# Altium footprint library Eric.PcbLib: 20 footprints (part 1 of 2)
Each footprint in its own frame and in the unit in brackets; x right, y up, seen from the top. Pads: shape width x height; smd on the part's side, far side on the other; paste and mask are expansions set on the pad; w line width, h text height; cw(c..) or ccw(c..) is an arc to the next point about the centre after c.
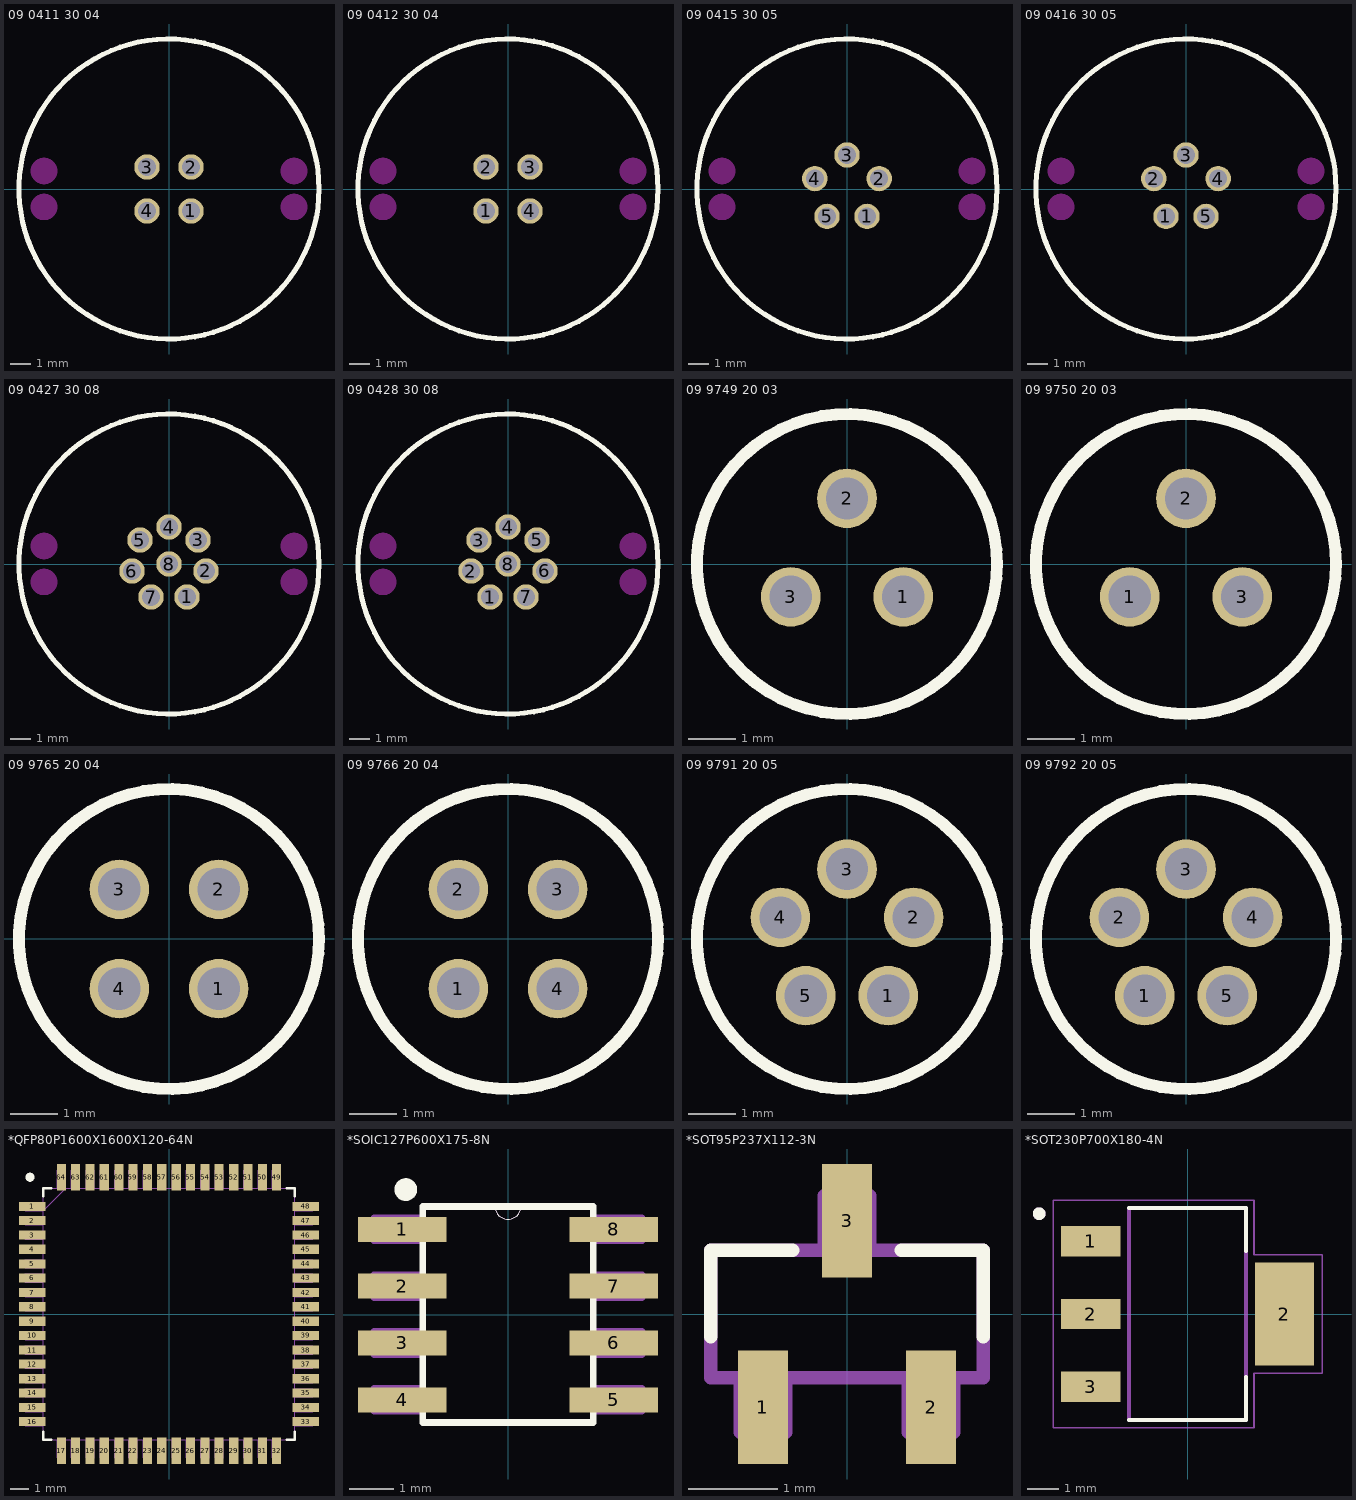
[diagram p0: the footprints below, top view; thin cyan lines are the x and y axes]

## 09 0411 30 04 [mm] "M9 IP67 Flanschstecker, Polzahl: 4, schirmbar, mit Schirmblech, tauchlöten, IP67"
pads (4):
  round 1.27 / inner rect 1.27x2.54 / far side round 1.27 hole 0.9: 1(1.1,-1.1) 2(1.1,1.1) 3(-1.1,1.1) 4(-1.1,-1.1)
Top Overlay:
  circle w0.254: c0,0 r7.5
Keep-Out Layer:
  board cut-out: -6.25,-1.55 -6.314,-1.55 -6.44,-1.525 -6.558,-1.476 -6.664,-1.405 -6.755,-1.314 -6.826,-1.208 -6.875,-1.09 -6.9,-0.964 -6.9,-0.9 -6.9,-0.836 -6.875,-0.71 -6.826,-0.592 -6.755,-0.486 -6.664,-0.395 -6.558,-0.324 -6.44,-0.275 -6.314,-0.25 -6.25,-0.25 -6.186,-0.25 -6.06,-0.275 -5.942,-0.324 -5.836,-0.395 -5.745,-0.486 -5.674,-0.592 -5.625,-0.71 -5.6,-0.836 -5.6,-0.9 -5.6,-0.964 -5.625,-1.09 -5.674,-1.208 -5.745,-1.314 -5.836,-1.405 -5.942,-1.476 -6.06,-1.525 -6.186,-1.55
  board cut-out: -6.25,0.25 -6.186,0.25 -6.06,0.275 -5.942,0.324 -5.836,0.395 -5.745,0.486 -5.674,0.592 -5.625,0.71 -5.6,0.836 -5.6,0.9 -5.6,0.964 -5.625,1.09 -5.674,1.208 -5.745,1.314 -5.836,1.405 -5.942,1.476 -6.06,1.525 -6.186,1.55 -6.25,1.55 -6.314,1.55 -6.44,1.525 -6.558,1.476 -6.664,1.405 -6.755,1.314 -6.826,1.208 -6.875,1.09 -6.9,0.964 -6.9,0.9 -6.9,0.836 -6.875,0.71 -6.826,0.592 -6.755,0.486 -6.664,0.395 -6.558,0.324 -6.44,0.275 -6.314,0.25
  board cut-out: 5.6,0.9 5.6,0.836 5.625,0.71 5.674,0.592 5.745,0.486 5.836,0.395 5.942,0.324 6.06,0.275 6.186,0.25 6.25,0.25 6.314,0.25 6.44,0.275 6.558,0.324 6.664,0.395 6.755,0.486 6.826,0.592 6.875,0.71 6.9,0.836 6.9,0.9 6.9,0.964 6.875,1.09 6.826,1.208 6.755,1.314 6.664,1.405 6.558,1.476 6.44,1.525 6.314,1.55 6.25,1.55 6.186,1.55 6.06,1.525 5.942,1.476 5.836,1.405 5.745,1.314 5.674,1.208 5.625,1.09 5.6,0.964
  board cut-out: 5.6,-0.9 5.6,-0.964 5.625,-1.09 5.674,-1.208 5.745,-1.314 5.836,-1.405 5.942,-1.476 6.06,-1.525 6.186,-1.55 6.25,-1.55 6.314,-1.55 6.44,-1.525 6.558,-1.476 6.664,-1.405 6.755,-1.314 6.826,-1.208 6.875,-1.09 6.9,-0.964 6.9,-0.9 6.9,-0.836 6.875,-0.71 6.826,-0.592 6.755,-0.486 6.664,-0.395 6.558,-0.324 6.44,-0.275 6.314,-0.25 6.25,-0.25 6.186,-0.25 6.06,-0.275 5.942,-0.324 5.836,-0.395 5.745,-0.486 5.674,-0.592 5.625,-0.71 5.6,-0.836
3D body "09_0411_30_04.stp": height 20.57, standoff -2.68, extent -7.5,-7.5 7.5,7.5

## 09 0412 30 04 [mm] "M9 IP67 Flanschdose, Polzahl: 4, schirmbar, mit Schirmblech, tauchlöten, IP67"
pads (4):
  round 1.27 / inner rect 1.27x2.54 / far side round 1.27 hole 0.9: 1(-1.1,-1.1) 2(-1.1,1.1) 3(1.1,1.1) 4(1.1,-1.1)
Top Overlay:
  circle w0.254: c0,0 r7.5
Keep-Out Layer:
  board cut-out: -6.25,-1.55 -6.314,-1.55 -6.44,-1.525 -6.558,-1.476 -6.664,-1.405 -6.755,-1.314 -6.826,-1.208 -6.875,-1.09 -6.9,-0.964 -6.9,-0.9 -6.9,-0.836 -6.875,-0.71 -6.826,-0.592 -6.755,-0.486 -6.664,-0.395 -6.558,-0.324 -6.44,-0.275 -6.314,-0.25 -6.25,-0.25 -6.186,-0.25 -6.06,-0.275 -5.942,-0.324 -5.836,-0.395 -5.745,-0.486 -5.674,-0.592 -5.625,-0.71 -5.6,-0.836 -5.6,-0.9 -5.6,-0.964 -5.625,-1.09 -5.674,-1.208 -5.745,-1.314 -5.836,-1.405 -5.942,-1.476 -6.06,-1.525 -6.186,-1.55
  board cut-out: -6.25,0.25 -6.186,0.25 -6.06,0.275 -5.942,0.324 -5.836,0.395 -5.745,0.486 -5.674,0.592 -5.625,0.71 -5.6,0.836 -5.6,0.9 -5.6,0.964 -5.625,1.09 -5.674,1.208 -5.745,1.314 -5.836,1.405 -5.942,1.476 -6.06,1.525 -6.186,1.55 -6.25,1.55 -6.314,1.55 -6.44,1.525 -6.558,1.476 -6.664,1.405 -6.755,1.314 -6.826,1.208 -6.875,1.09 -6.9,0.964 -6.9,0.9 -6.9,0.836 -6.875,0.71 -6.826,0.592 -6.755,0.486 -6.664,0.395 -6.558,0.324 -6.44,0.275 -6.314,0.25
  board cut-out: 5.6,0.9 5.6,0.836 5.625,0.71 5.674,0.592 5.745,0.486 5.836,0.395 5.942,0.324 6.06,0.275 6.186,0.25 6.25,0.25 6.314,0.25 6.44,0.275 6.558,0.324 6.664,0.395 6.755,0.486 6.826,0.592 6.875,0.71 6.9,0.836 6.9,0.9 6.9,0.964 6.875,1.09 6.826,1.208 6.755,1.314 6.664,1.405 6.558,1.476 6.44,1.525 6.314,1.55 6.25,1.55 6.186,1.55 6.06,1.525 5.942,1.476 5.836,1.405 5.745,1.314 5.674,1.208 5.625,1.09 5.6,0.964
  board cut-out: 5.6,-0.9 5.6,-0.964 5.625,-1.09 5.674,-1.208 5.745,-1.314 5.836,-1.405 5.942,-1.476 6.06,-1.525 6.186,-1.55 6.25,-1.55 6.314,-1.55 6.44,-1.525 6.558,-1.476 6.664,-1.405 6.755,-1.314 6.826,-1.208 6.875,-1.09 6.9,-0.964 6.9,-0.9 6.9,-0.836 6.875,-0.71 6.826,-0.592 6.755,-0.486 6.664,-0.395 6.558,-0.324 6.44,-0.275 6.314,-0.25 6.25,-0.25 6.186,-0.25 6.06,-0.275 5.942,-0.324 5.836,-0.395 5.745,-0.486 5.674,-0.592 5.625,-0.71 5.6,-0.836
3D body "09_0412_30_04.stp": height 12.65, standoff -2.75, extent -7.5,-7.5 7.5,7.5

## 09 0415 30 05 [mm] "M9 IP67 Flanschstecker, Polzahl: 5, schirmbar, mit Schirmblech, tauchlöten, IP67"
pads (5):
  round 1.27 / inner rect 1.27x2.54 / far side round 1.27 hole 0.9: 1(1,-1.37) 2(1.61,0.52) 3(0,1.7) 4(-1.61,0.52) 5(-1,-1.37)
Top Overlay:
  circle w0.254: c0,0 r7.5
Keep-Out Layer:
  board cut-out: 5.6,-0.9 5.6,-0.964 5.625,-1.09 5.674,-1.208 5.745,-1.314 5.836,-1.405 5.942,-1.476 6.06,-1.525 6.186,-1.55 6.25,-1.55 6.314,-1.55 6.44,-1.525 6.558,-1.476 6.664,-1.405 6.755,-1.314 6.826,-1.208 6.875,-1.09 6.9,-0.964 6.9,-0.9 6.9,-0.836 6.875,-0.71 6.826,-0.592 6.755,-0.486 6.664,-0.395 6.558,-0.324 6.44,-0.275 6.314,-0.25 6.25,-0.25 6.186,-0.25 6.06,-0.275 5.942,-0.324 5.836,-0.395 5.745,-0.486 5.674,-0.592 5.625,-0.71 5.6,-0.836
  board cut-out: 5.6,0.9 5.6,0.836 5.625,0.71 5.674,0.592 5.745,0.486 5.836,0.395 5.942,0.324 6.06,0.275 6.186,0.25 6.25,0.25 6.314,0.25 6.44,0.275 6.558,0.324 6.664,0.395 6.755,0.486 6.826,0.592 6.875,0.71 6.9,0.836 6.9,0.9 6.9,0.964 6.875,1.09 6.826,1.208 6.755,1.314 6.664,1.405 6.558,1.476 6.44,1.525 6.314,1.55 6.25,1.55 6.186,1.55 6.06,1.525 5.942,1.476 5.836,1.405 5.745,1.314 5.674,1.208 5.625,1.09 5.6,0.964
  board cut-out: -6.25,0.25 -6.186,0.25 -6.06,0.275 -5.942,0.324 -5.836,0.395 -5.745,0.486 -5.674,0.592 -5.625,0.71 -5.6,0.836 -5.6,0.9 -5.6,0.964 -5.625,1.09 -5.674,1.208 -5.745,1.314 -5.836,1.405 -5.942,1.476 -6.06,1.525 -6.186,1.55 -6.25,1.55 -6.314,1.55 -6.44,1.525 -6.558,1.476 -6.664,1.405 -6.755,1.314 -6.826,1.208 -6.875,1.09 -6.9,0.964 -6.9,0.9 -6.9,0.836 -6.875,0.71 -6.826,0.592 -6.755,0.486 -6.664,0.395 -6.558,0.324 -6.44,0.275 -6.314,0.25
  board cut-out: -6.25,-1.55 -6.314,-1.55 -6.44,-1.525 -6.558,-1.476 -6.664,-1.405 -6.755,-1.314 -6.826,-1.208 -6.875,-1.09 -6.9,-0.964 -6.9,-0.9 -6.9,-0.836 -6.875,-0.71 -6.826,-0.592 -6.755,-0.486 -6.664,-0.395 -6.558,-0.324 -6.44,-0.275 -6.314,-0.25 -6.25,-0.25 -6.186,-0.25 -6.06,-0.275 -5.942,-0.324 -5.836,-0.395 -5.745,-0.486 -5.674,-0.592 -5.625,-0.71 -5.6,-0.836 -5.6,-0.9 -5.6,-0.964 -5.625,-1.09 -5.674,-1.208 -5.745,-1.314 -5.836,-1.405 -5.942,-1.476 -6.06,-1.525 -6.186,-1.55
3D body "09_0415_30_05.stp": height 20.57, standoff -2.68, extent -7.5,-7.5 7.5,7.5

## 09 0416 30 05 [mm] "M9 IP67 Flanschdose, Polzahl: 4, schirmbar, mit Schirmblech, tauchlöten, IP67"
pads (5):
  round 1.27 / inner rect 1.27x2.54 / far side round 1.27 hole 0.9: 1(-1,-1.37) 2(-1.61,0.52) 3(0,1.7) 4(1.61,0.52) 5(1,-1.37)
Top Overlay:
  circle w0.254: c0,0 r7.5
Keep-Out Layer:
  board cut-out: 5.6,-0.9 5.6,-0.964 5.625,-1.09 5.674,-1.208 5.745,-1.314 5.836,-1.405 5.942,-1.476 6.06,-1.525 6.186,-1.55 6.25,-1.55 6.314,-1.55 6.44,-1.525 6.558,-1.476 6.664,-1.405 6.755,-1.314 6.826,-1.208 6.875,-1.09 6.9,-0.964 6.9,-0.9 6.9,-0.836 6.875,-0.71 6.826,-0.592 6.755,-0.486 6.664,-0.395 6.558,-0.324 6.44,-0.275 6.314,-0.25 6.25,-0.25 6.186,-0.25 6.06,-0.275 5.942,-0.324 5.836,-0.395 5.745,-0.486 5.674,-0.592 5.625,-0.71 5.6,-0.836
  board cut-out: 5.6,0.9 5.6,0.836 5.625,0.71 5.674,0.592 5.745,0.486 5.836,0.395 5.942,0.324 6.06,0.275 6.186,0.25 6.25,0.25 6.314,0.25 6.44,0.275 6.558,0.324 6.664,0.395 6.755,0.486 6.826,0.592 6.875,0.71 6.9,0.836 6.9,0.9 6.9,0.964 6.875,1.09 6.826,1.208 6.755,1.314 6.664,1.405 6.558,1.476 6.44,1.525 6.314,1.55 6.25,1.55 6.186,1.55 6.06,1.525 5.942,1.476 5.836,1.405 5.745,1.314 5.674,1.208 5.625,1.09 5.6,0.964
  board cut-out: -6.25,0.25 -6.186,0.25 -6.06,0.275 -5.942,0.324 -5.836,0.395 -5.745,0.486 -5.674,0.592 -5.625,0.71 -5.6,0.836 -5.6,0.9 -5.6,0.964 -5.625,1.09 -5.674,1.208 -5.745,1.314 -5.836,1.405 -5.942,1.476 -6.06,1.525 -6.186,1.55 -6.25,1.55 -6.314,1.55 -6.44,1.525 -6.558,1.476 -6.664,1.405 -6.755,1.314 -6.826,1.208 -6.875,1.09 -6.9,0.964 -6.9,0.9 -6.9,0.836 -6.875,0.71 -6.826,0.592 -6.755,0.486 -6.664,0.395 -6.558,0.324 -6.44,0.275 -6.314,0.25
  board cut-out: -6.25,-1.55 -6.314,-1.55 -6.44,-1.525 -6.558,-1.476 -6.664,-1.405 -6.755,-1.314 -6.826,-1.208 -6.875,-1.09 -6.9,-0.964 -6.9,-0.9 -6.9,-0.836 -6.875,-0.71 -6.826,-0.592 -6.755,-0.486 -6.664,-0.395 -6.558,-0.324 -6.44,-0.275 -6.314,-0.25 -6.25,-0.25 -6.186,-0.25 -6.06,-0.275 -5.942,-0.324 -5.836,-0.395 -5.745,-0.486 -5.674,-0.592 -5.625,-0.71 -5.6,-0.836 -5.6,-0.9 -5.6,-0.964 -5.625,-1.09 -5.674,-1.208 -5.745,-1.314 -5.836,-1.405 -5.942,-1.476 -6.06,-1.525 -6.186,-1.55
3D body "09_0416_30_05.stp": height 12.65, standoff -2.75, extent -7.5,-7.5 7.5,7.5

## 09 0427 30 08 [mm] "M9 IP67 Flanschstecker, Polzahl: 8, schirmbar, mit Schirmblech, tauchlöten, IP67"
pads (8):
  round 1.27 / inner rect 1.27x2.54 / far side round 1.27 hole 0.9: 1(0.9,-1.65) 2(1.85,-0.35) 3(1.45,1.2) 4(0,1.85) 5(-1.45,1.2) 6(-1.85,-0.35) 7(-0.9,-1.65) 8(0,0)
Top Overlay:
  circle w0.254: c0,0 r7.5
Keep-Out Layer:
  board cut-out: -6.25,-1.55 -6.314,-1.55 -6.44,-1.525 -6.558,-1.476 -6.664,-1.405 -6.755,-1.314 -6.826,-1.208 -6.875,-1.09 -6.9,-0.964 -6.9,-0.9 -6.9,-0.836 -6.875,-0.71 -6.826,-0.592 -6.755,-0.486 -6.664,-0.395 -6.558,-0.324 -6.44,-0.275 -6.314,-0.25 -6.25,-0.25 -6.186,-0.25 -6.06,-0.275 -5.942,-0.324 -5.836,-0.395 -5.745,-0.486 -5.674,-0.592 -5.625,-0.71 -5.6,-0.836 -5.6,-0.9 -5.6,-0.964 -5.625,-1.09 -5.674,-1.208 -5.745,-1.314 -5.836,-1.405 -5.942,-1.476 -6.06,-1.525 -6.186,-1.55
  board cut-out: -6.25,0.25 -6.186,0.25 -6.06,0.275 -5.942,0.324 -5.836,0.395 -5.745,0.486 -5.674,0.592 -5.625,0.71 -5.6,0.836 -5.6,0.9 -5.6,0.964 -5.625,1.09 -5.674,1.208 -5.745,1.314 -5.836,1.405 -5.942,1.476 -6.06,1.525 -6.186,1.55 -6.25,1.55 -6.314,1.55 -6.44,1.525 -6.558,1.476 -6.664,1.405 -6.755,1.314 -6.826,1.208 -6.875,1.09 -6.9,0.964 -6.9,0.9 -6.9,0.836 -6.875,0.71 -6.826,0.592 -6.755,0.486 -6.664,0.395 -6.558,0.324 -6.44,0.275 -6.314,0.25
  board cut-out: 5.6,0.9 5.6,0.836 5.625,0.71 5.674,0.592 5.745,0.486 5.836,0.395 5.942,0.324 6.06,0.275 6.186,0.25 6.25,0.25 6.314,0.25 6.44,0.275 6.558,0.324 6.664,0.395 6.755,0.486 6.826,0.592 6.875,0.71 6.9,0.836 6.9,0.9 6.9,0.964 6.875,1.09 6.826,1.208 6.755,1.314 6.664,1.405 6.558,1.476 6.44,1.525 6.314,1.55 6.25,1.55 6.186,1.55 6.06,1.525 5.942,1.476 5.836,1.405 5.745,1.314 5.674,1.208 5.625,1.09 5.6,0.964
  board cut-out: 5.6,-0.9 5.6,-0.964 5.625,-1.09 5.674,-1.208 5.745,-1.314 5.836,-1.405 5.942,-1.476 6.06,-1.525 6.186,-1.55 6.25,-1.55 6.314,-1.55 6.44,-1.525 6.558,-1.476 6.664,-1.405 6.755,-1.314 6.826,-1.208 6.875,-1.09 6.9,-0.964 6.9,-0.9 6.9,-0.836 6.875,-0.71 6.826,-0.592 6.755,-0.486 6.664,-0.395 6.558,-0.324 6.44,-0.275 6.314,-0.25 6.25,-0.25 6.186,-0.25 6.06,-0.275 5.942,-0.324 5.836,-0.395 5.745,-0.486 5.674,-0.592 5.625,-0.71 5.6,-0.836
3D body "09_0427_30_08.stp": height 20.53, standoff -2.72, extent -7.5,-7.5 7.5,7.5

## 09 0428 30 08 [mm] "M9 IP67 Flanschdose, Polzahl: 8, schirmbar, mit Schirmblech, tauchlöten, IP67"
pads (8):
  round 1.27 / inner rect 1.27x2.54 / far side round 1.27 hole 0.9: 1(-0.9,-1.65) 2(-1.85,-0.35) 3(-1.45,1.2) 4(0,1.85) 5(1.45,1.2) 6(1.85,-0.35) 7(0.9,-1.65) 8(0,0)
Top Overlay:
  circle w0.254: c0,0 r7.5
Keep-Out Layer:
  board cut-out: -6.25,-1.55 -6.314,-1.55 -6.44,-1.525 -6.558,-1.476 -6.664,-1.405 -6.755,-1.314 -6.826,-1.208 -6.875,-1.09 -6.9,-0.964 -6.9,-0.9 -6.9,-0.836 -6.875,-0.71 -6.826,-0.592 -6.755,-0.486 -6.664,-0.395 -6.558,-0.324 -6.44,-0.275 -6.314,-0.25 -6.25,-0.25 -6.186,-0.25 -6.06,-0.275 -5.942,-0.324 -5.836,-0.395 -5.745,-0.486 -5.674,-0.592 -5.625,-0.71 -5.6,-0.836 -5.6,-0.9 -5.6,-0.964 -5.625,-1.09 -5.674,-1.208 -5.745,-1.314 -5.836,-1.405 -5.942,-1.476 -6.06,-1.525 -6.186,-1.55
  board cut-out: -6.25,0.25 -6.186,0.25 -6.06,0.275 -5.942,0.324 -5.836,0.395 -5.745,0.486 -5.674,0.592 -5.625,0.71 -5.6,0.836 -5.6,0.9 -5.6,0.964 -5.625,1.09 -5.674,1.208 -5.745,1.314 -5.836,1.405 -5.942,1.476 -6.06,1.525 -6.186,1.55 -6.25,1.55 -6.314,1.55 -6.44,1.525 -6.558,1.476 -6.664,1.405 -6.755,1.314 -6.826,1.208 -6.875,1.09 -6.9,0.964 -6.9,0.9 -6.9,0.836 -6.875,0.71 -6.826,0.592 -6.755,0.486 -6.664,0.395 -6.558,0.324 -6.44,0.275 -6.314,0.25
  board cut-out: 5.6,0.9 5.6,0.836 5.625,0.71 5.674,0.592 5.745,0.486 5.836,0.395 5.942,0.324 6.06,0.275 6.186,0.25 6.25,0.25 6.314,0.25 6.44,0.275 6.558,0.324 6.664,0.395 6.755,0.486 6.826,0.592 6.875,0.71 6.9,0.836 6.9,0.9 6.9,0.964 6.875,1.09 6.826,1.208 6.755,1.314 6.664,1.405 6.558,1.476 6.44,1.525 6.314,1.55 6.25,1.55 6.186,1.55 6.06,1.525 5.942,1.476 5.836,1.405 5.745,1.314 5.674,1.208 5.625,1.09 5.6,0.964
  board cut-out: 5.6,-0.9 5.6,-0.964 5.625,-1.09 5.674,-1.208 5.745,-1.314 5.836,-1.405 5.942,-1.476 6.06,-1.525 6.186,-1.55 6.25,-1.55 6.314,-1.55 6.44,-1.525 6.558,-1.476 6.664,-1.405 6.755,-1.314 6.826,-1.208 6.875,-1.09 6.9,-0.964 6.9,-0.9 6.9,-0.836 6.875,-0.71 6.826,-0.592 6.755,-0.486 6.664,-0.395 6.558,-0.324 6.44,-0.275 6.314,-0.25 6.25,-0.25 6.186,-0.25 6.06,-0.275 5.942,-0.324 5.836,-0.395 5.745,-0.486 5.674,-0.592 5.625,-0.71 5.6,-0.836
3D body "09_0428_30_08.stp": height 12.65, standoff -2.7, extent -7.5,-7.5 7.5,7.5

## 09 9749 20 03 [mm] "Binder_3pin_snapin_male"
pads (3):
  round 1.27 / inner rect 1.27x2.54 / far side round 1.27 hole 0.9: 1(1.2,-0.7) 2(0,1.4) 3(-1.2,-0.7)
Top Overlay:
  circle w0.254: c0,0 r3.2
3D body "09_9749_20_03.stp": height 15.24, standoff -4.76, extent -4.346,-4 4.347,4

## 09 9750 20 03 [mm] "Binder_3pin_snapin_female"
pads (3):
  round 1.27 / inner rect 1.27x2.54 / far side round 1.27 hole 0.9: 1(-1.2,-0.7) 2(0,1.4) 3(1.2,-0.7)
Top Overlay:
  circle w0.254: c0,0 r3.2
3D body "09_9750_20_03.stp": height 14.59, standoff -3.61, extent -4,-4.55 4,4.55

## 09 9765 20 04 [mm] "Binder_4pin_snapin_male"
pads (4):
  round 1.27 / inner rect 1.27x2.54 / far side round 1.27 hole 0.9: 1(1.06,-1.06) 2(1.06,1.06) 3(-1.06,1.06) 4(-1.06,-1.06)
Top Overlay:
  circle w0.254: c0,0 r3.2
3D body "09_9765_20_04.stp": height 13.97, standoff -4.03, extent -4.347,-4 4.346,4

## 09 9766 20 04 [mm] "Binder_4pin_snapin_female"
pads (4):
  round 1.27 / inner rect 1.27x2.54 / far side round 1.27 hole 0.9: 1(-1.06,-1.06) 2(-1.06,1.06) 3(1.06,1.06) 4(1.06,-1.06)
Top Overlay:
  circle w0.254: c0,0 r3.2
3D body "09_9766_20_04.stp": height 14.4, standoff -3.7, extent -4,-4.346 4,4.347

## 09 9791 20 05 [mm] "Binder_5pin_snapin_male"
pads (5):
  round 1.27 / inner rect 1.27x2.54 / far side round 1.27 hole 0.9: 1(0.88,-1.21) 2(1.42,0.46) 3(0,1.49) 4(-1.42,0.46) 5(-0.88,-1.21)
Top Overlay:
  circle w0.254: c0,0 r3.2
3D body "09_9791_20_05.stp": height 13.97, standoff -4.03, extent -4.346,-4 4.347,4

## 09 9792 20 05 [mm] "Binder_5pin_snapin_female"
pads (5):
  round 1.27 / inner rect 1.27x2.54 / far side round 1.27 hole 0.9: 1(-0.88,-1.21) 2(-1.42,0.46) 3(0,1.49) 4(1.42,0.46) 5(0.88,-1.21)
Top Overlay:
  circle w0.254: c0,0 r3.2
3D body "09_9792_20_05.stp": height 14.59, standoff -3.61, extent -4,-4.55 4,4.55

## *QFP80P1600X1600X120-64N [mil]
pads (64):
  rect 58x20 smd: 1(-300,236) 2(-300,205) 3(-300,173) 4(-300,142) 5(-300,110) 6(-300,79) 7(-300,47) 8(-300,16) 9(-300,-16) 10(-300,-47) 11(-300,-79) 12(-300,-110) 13(-300,-142) 14(-300,-173) 15(-300,-205) 16(-300,-236) 33(300,-236) 34(300,-205) 35(300,-173) 36(300,-142) 37(300,-110) 38(300,-79) 39(300,-47) 40(300,-16) 41(300,16) 42(300,47) 43(300,79) 44(300,110) 45(300,142) 46(300,173) 47(300,205) 48(300,236)
  rect 20x58 smd: 17(-236,-300) 18(-205,-300) 19(-173,-300) 20(-142,-300) 21(-110,-300) 22(-79,-300) 23(-47,-300) 24(-16,-300) 25(16,-300) 26(47,-300) 27(79,-300) 28(110,-300) 29(142,-300) 30(173,-300) 31(205,-300) 32(236,-300) 49(236,300) 50(205,300) 51(173,300) 52(142,300) 53(110,300) 54(79,300) 55(47,300) 56(16,300) 57(-16,300) 58(-47,300) 59(-79,300) 60(-110,300) 61(-142,300) 62(-173,300) 63(-205,300) 64(-236,300)
Top Overlay:
  circle w10: c-305,300 r5
  lines w6: -276,-259 -276,-276 -259,-276 ; -276,259 -276,276 -259,276 ; 259,-276 276,-276 276,-259 ; 259,276 276,276 276,259
Mechanical 4:
  drawing of 662 lines, arcs and shapes, not listed
3D body: height 30, standoff 5, extent -270,-270 270,270

## *SOIC127P600X175-8N [mil]
pads (8):
  rect 78x22 smd: 1(-93,75) 2(-93,25) 3(-93,-25) 4(-93,-75) 5(93,-75) 6(93,-25) 7(93,25) 8(93,75)
Top Overlay:
  circle w10: c-90,110 r5
  lines w0: -12,96 ccw(c0,96) 12,96
  lines w6: -75,-95 -75,95 75,95 75,-95 -75,-95
Mechanical 13:
  lines w0: -12,96 ccw(c0,96) 12,96 cw(c0,96) -12,96
  lines w6: -118,-85 -118,-65 ; -118,-85 -77,-85 ; -118,-85 -118,-65 ; -118,-85 -77,-85 ; -118,-65 -77,-65 ; -118,-65 -77,-65 ; -118,-35 -118,-15 ; -118,-35 -77,-35 ; -118,-35 -118,-15 ; -118,-35 -77,-35 ; -118,-15 -77,-15 ; -118,-15 -77,-15 ; -118,15 -118,35 ; -118,15 -77,15 ; -118,15 -118,35 ; -118,15 -77,15 ; -118,35 -77,35 ; -118,35 -77,35 ; -118,65 -118,85 ; -118,65 -77,65 ; -118,65 -118,85 ; -118,65 -77,65 ; -118,85 -77,85 ; -118,85 -77,85 ; -77,-85 -77,-65 ; -77,-85 -77,-65 ; -77,-35 -77,-15 ; -77,-35 -77,-15 ; -77,15 -77,35 ; -77,15 -77,35 ; -77,65 -77,85 ; -77,65 -77,85 ; 77,-85 77,-65 ; 77,-85 118,-85 ; 77,-85 77,-65 ; 77,-85 118,-85 ; 77,-65 118,-65 ; 77,-65 118,-65 ; 77,-35 77,-15 ; 77,-35 118,-35 ; 77,-35 77,-15 ; 77,-35 118,-35 ; 77,-15 118,-15 ; 77,-15 118,-15 ; 77,15 77,35 ; 77,15 118,15 ; 77,15 77,35 ; 77,15 118,15 ; 77,35 118,35 ; 77,35 118,35 ; 77,65 77,85 ; 77,65 118,65 ; 77,65 77,85 ; 77,65 118,65 ; 77,85 118,85 ; 77,85 118,85 ; 118,-85 118,-65 ; 118,-85 118,-65 ; 118,-35 118,-15 ; 118,-35 118,-15 ; 118,15 118,35 ; 118,15 118,35 ; 118,65 118,85 ; 118,65 118,85
3D body: height 10, standoff 0, extent 5,-15 5,-15
3D body: height 80, standoff 5, extent -75,-95 75,95

## *SOT95P237X112-3N [mil]
pads (3):
  rect 22x50 smd: 1(-37,-41) 2(37,-41) 3(0,41)
Top Overlay:
  lines w6: -60,-10 -60,28 -24,28 ; 24,28 60,28 60,-10
Mechanical 4:
  lines w6: -60,-28 -60,28 ; -60,-28 60,-28 ; -60,-28 -60,28 ; -60,-28 60,-28 ; -60,28 60,28 ; -60,28 60,28 ; -47,-52 -27,-52 ; -47,-52 -47,-28 ; -47,-52 -27,-52 ; -47,-52 -47,-28 ; -47,-28 -27,-28 ; -47,-28 -27,-28 ; -27,-52 -27,-28 ; -27,-52 -27,-28 ; -10,28 -10,52 ; -10,28 10,28 ; -10,28 -10,52 ; -10,28 10,28 ; -10,52 10,52 ; -10,52 10,52 ; 10,28 10,52 ; 10,28 10,52 ; 27,-52 47,-52 ; 27,-52 27,-28 ; 27,-52 47,-52 ; 27,-52 27,-28 ; 27,-28 47,-28 ; 27,-28 47,-28 ; 47,-52 47,-28 ; 47,-52 47,-28 ; 60,-28 60,28 ; 60,-28 60,28
3D body: height 50, standoff 5, extent -60,-25 60,25

## *SOT230P700X180-4N [mm]
pads (4):
  rect 1.88x0.96 smd: 1(-3.065,2.3) 2(-3.065,0) 3(-3.065,-2.3)
  rect 1.88x3.26 smd: 2(3.065,0)
Top Overlay:
  circle w0.2: c-4.7,3.175 r0.1
  lines w0.127: -1.85,-3.35 1.85,-3.35 1.85,-2 ; -1.85,3.35 1.85,3.35 1.85,2
Mechanical 13:
  circle w0.2: c-4.7,3.175 r0.1
  circle w0.2: c-4.7,3.175 r0.1
  lines w0.127: -1.85,-3.35 -1.85,3.35 ; -1.85,-3.35 1.85,-3.35 ; -1.85,-3.35 -1.85,3.35 ; -1.85,-3.35 1.85,-3.35 ; -1.85,3.35 1.85,3.35 ; -1.85,3.35 1.85,3.35 ; 1.85,-3.35 1.85,3.35 ; 1.85,-3.35 1.85,3.35
Mechanical 15:
  lines w0.05: -4.255,-3.6 -4.255,3.6 2.1,3.6 2.1,1.88 4.255,1.88 4.255,-1.88 2.1,-1.88 2.1,-3.6 -4.255,-3.6
3D body: height 1.27, standoff 0, extent -1.905,-3.429 1.905,3.429